# EAGLE library part AK4122 (library akm)
Sample Rate Converter with DIR 24-Bit, 96 kHz with Digital Audio Receiver (DIR)
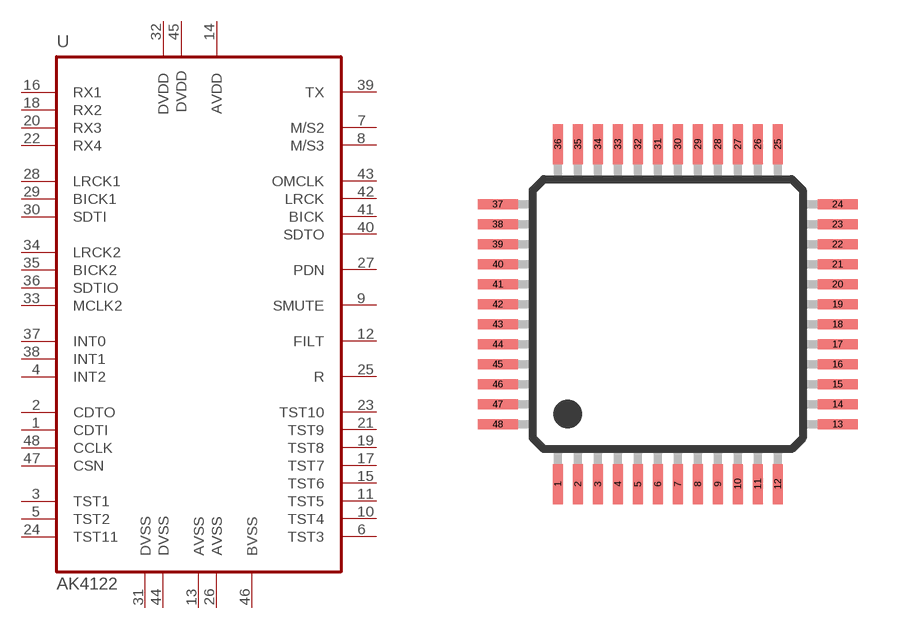
[diagram p1: symbol with the pads of LQFP48; footprint LQFP48]

Designator prefix U

## AK4122VQ  [LQFP48]
1  CDTI  in
2  CDTO  out
3  TST1  nc
4  INT2  out
5  TST2  nc
6  TST3  in
7  M/S2  in
8  M/S3  in
9  SMUTE  in
10  TST4  in
11  TST5  in
12  FILT  out
13  AVSS  pwr
14  AVDD  pwr
15  TST6  in
16  RX1  in
17  TST7  in
18  RX2  in
19  TST8  in
20  RX3  in
21  TST9  in
22  RX4  in
23  TST10  in
24  TST11  nc
25  R  pas
26  AVSS1  pwr
27  PDN  in
28  LRCK1  in
29  BICK1  in
30  SDTI  in
31  DVSS  pwr
32  DVDD  pwr
33  MCLK2  in
34  LRCK2
35  BICK2
36  SDTIO
37  INT0  out
38  INT1  out
39  TX  out
40  SDTO  out
41  BICK
42  LRCK
43  OMCLK  in
44  DVSS1  pwr
45  DVDD1  pwr
46  BVSS  pwr
47  CSN  in
48  CCLK  in

## Footprint LQFP48 (pad centres in mm)
LQFP48
smd 0.25 x 1: 1 -2.75,-4.25; 2 -2.25,-4.25; 3 -1.75,-4.25; 4 -1.25,-4.25; 5 -0.75,-4.25; 6 -0.25,-4.25; 7 0.25,-4.25; 8 0.75,-4.25; 9 1.25,-4.25; 10 1.75,-4.25; 11 2.25,-4.25; 12 2.75,-4.25; 25 2.75,4.25; 26 2.25,4.25; 27 1.75,4.25; 28 1.25,4.25; 29 0.75,4.25; 30 0.25,4.25; 31 -0.25,4.25; 32 -0.75,4.25; 33 -1.25,4.25; 34 -1.75,4.25; 35 -2.25,4.25; 36 -2.75,4.25
smd 1 x 0.25: 13 4.25,-2.75; 14 4.25,-2.25; 15 4.25,-1.75; 16 4.25,-1.25; 17 4.25,-0.75; 18 4.25,-0.25; 19 4.25,0.25; 20 4.25,0.75; 21 4.25,1.25; 22 4.25,1.75; 23 4.25,2.25; 24 4.25,2.75; 37 -4.25,2.75; 38 -4.25,2.25; 39 -4.25,1.75; 40 -4.25,1.25; 41 -4.25,0.75; 42 -4.25,0.25; 43 -4.25,-0.25; 44 -4.25,-0.75; 45 -4.25,-1.25; 46 -4.25,-1.75; 47 -4.25,-2.25; 48 -4.25,-2.75